# Altium footprint library Modulo-1B-TY.PcbLib: 23 footprints (part 2 of 2)
Each footprint in its own frame and in the unit in brackets; x right, y up, seen from the top. Pads: shape width x height; smd on the part's side, far side on the other; paste and mask are expansions set on the pad; w line width, h text height; cw(c..) or ccw(c..) is an arc to the next point about the centre after c.
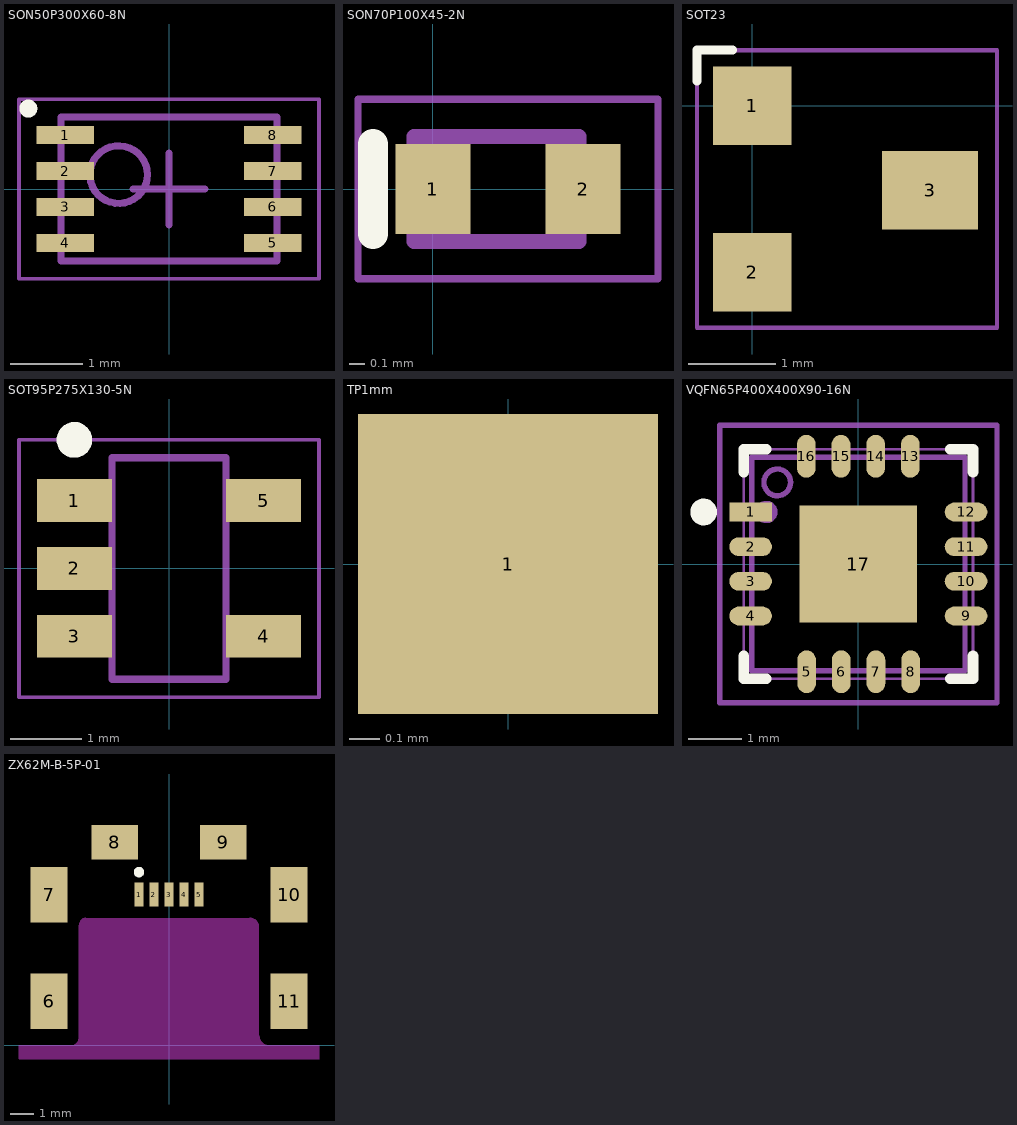
[diagram p1: the footprints below, top view; thin cyan lines are the x and y axes]

## SON50P300X60-8N [mm] "SON, 8-Leads, Body 2.00x3.00mm, Pitch 0.50mm, IPC Medium Density"
height 0.6
pads (8):
  rect 0.8x0.25 smd: 1(-1.44,0.75) 2(-1.44,0.25) 3(-1.44,-0.25) 4(-1.44,-0.75) 5(1.44,-0.75) 6(1.44,-0.25) 7(1.44,0.25) 8(1.44,0.75)
Top Overlay:
  circle w0.15: c-1.956,1.118 r0.05
Mechanical 13:
  circle w0.1: c-0.7,0.2 r0.4
  lines w0.1: -1.5,-1 1.5,-1 1.5,1 -1.5,1 -1.5,-1
Mechanical 15:
  lines w0.05: -2.085,-1.25 2.085,-1.25 2.085,1.25 -2.085,1.25 -2.085,-1.25
  lines w0.1: -0.5,0 0.5,0 ; 0,-0.5 0,0.5
Mechanical 29:
  text ".Designator" at -0.686,-0.889 h1.25
3D body "SON50P300X60-8N.step": height 0.6, standoff 0, extent -1.501,-1 1.501,1

## SON70P100X45-2N [mm] "SON, 2-Leads, Body 0.60x1.00mm, Pitch 0.70mm, IPC Medium Density"
height 0.45
pads (2):
  rect 0.5x0.6 smd: 1(0,0) 2(1,0)
Top Overlay:
  lines w0.2: -0.4,-0.3 -0.4,0.3
Mechanical 13:
  lines w0.1: -0.125,-0.35 -0.125,0.35 0.975,0.35 0.975,-0.35 -0.125,-0.35
Mechanical 15:
  lines w0.05: -0.5,-0.6 -0.5,0.6 1.5,0.6 1.5,-0.6 -0.5,-0.6
Mechanical 29:
  text ".Designator" at -0.203,-0.229 h0.7
3D body "SON70P100X45-2N.step": height 0.45, standoff 0, extent -0.05,-0.35 1.05,0.35

## SOT23 [mm] "SOT32"
height 1.2
pads (3):
  rect 0.9x0.9 smd: 1(0,0) 2(0,-1.905)
  rect 1.1x0.9 smd: 3(2.032,-0.965)
Top Overlay:
  lines w0.102: -0.632,0.28 -0.632,0.635 -0.226,0.635
Mechanical 29:
  lines w0.05: -0.632,-2.54 -0.632,0.635 2.797,0.635 2.797,-2.54 -0.632,-2.54
  text ".Designator" at -0.076,-1.448 h1.5
3D body "SW3dPS-3-lead sot23-3.STEP": height 1.03, standoff 0.01, extent -0.088,-2.413 2.388,0.507

## SOT95P275X130-5N [mm] "SOT23, 5-Leads, Body 2.90x2.75mm, Pitch 0.95mm, IPC Medium Density"
height 1.3
pads (5):
  rect 1.05x0.6 smd: 1(-1.325,0.95) 2(-1.325,0) 3(-1.325,-0.95) 4(1.325,-0.95) 5(1.325,0.95)
Top Overlay:
  circle w0.25: c-1.325,1.8 r0.125
Mechanical 13:
  lines w0.1: -0.8,-1.55 -0.8,1.55 0.8,1.55 0.8,-1.55 -0.8,-1.55
Mechanical 15:
  lines w0.05: -2.1,-1.8 -2.1,1.8 2.1,1.8 2.1,-1.8 -2.1,-1.8
Mechanical 29:
  text ".Designator" at 0.66,-1.422 h2
3D body "SOT95P275X130-5N.step": height 1.3, standoff 0, extent -1.5,-1.55 1.5,1.55

## TP1mm [mm] "1mm test point"
pads (1):
  rect 1x1 smd paste-1: 1(0,0)
Mechanical 29:
  text ".Designator" at -1.143,-0.203 h0.7

## VQFN65P400X400X90-16N [mm] "VQFN, 16-Leads, Body 4.0x4.0mm (max), Pitch 0.65mm, IPC Medium Density"
height 0.9
pads (17):
  rect 0.8x0.35 smd: 1(-2.02,0.975)
  oval 0.8x0.35 smd: 2(-2.02,0.325) 3(-2.02,-0.325) 4(-2.02,-0.975) 9(2.02,-0.975) 10(2.02,-0.325) 11(2.02,0.325) 12(2.02,0.975)
  oval 0.35x0.8 smd: 5(-0.97,-2.02) 6(-0.32,-2.02) 7(0.33,-2.02) 8(0.98,-2.02) 13(0.975,2.02) 14(0.325,2.02) 15(-0.325,2.02) 16(-0.975,2.02)
  rect 2.2x2.2 smd: 17(0,0)
Top Overlay:
  circle w0.25: c-2.9,0.975 r0.125
  lines w0.2: -2.15,-1.725 -2.15,-2.15 -1.725,-2.15 ; -2.15,1.725 -2.15,2.15 -1.725,2.15 ; 1.725,-2.15 2.15,-2.15 2.15,-1.725 ; 1.725,2.15 2.15,2.15 2.15,1.725
Mechanical 13:
  circle w0.1: c-1.52,1.53 r0.25
  lines w0.1: -2,-2 2,-2 2,2 -2,2 -2,-2
Mechanical 15:
  lines w0.1: -0.5,0 0.5,0 ; 0,-0.5 0,0.5 ; -2.6,-2.6 2.6,-2.6 2.6,2.6 -2.6,2.6 -2.6,-2.6
Mechanical 29:
  circle w0.254: c-1.725,0.975 r0.083
  lines w0.05: -2.15,-2.15 -2.15,2.15 2.15,2.15 2.15,-2.15 -2.15,-2.15
  text ".Designator" at -1.642,-0.325 h2
3D body: height 0.9, standoff 0.02, extent -2,-2 2,2

## ZX62M-B-5P-01 [mm]
pads (11):
  rect 0.4x1.05 smd: 1(-1.3,6.525) 2(-0.65,6.525) 3(0,6.525) 4(0.65,6.525) 5(1.3,6.525)
  rect 1.6x2.4 smd: 6(-5.2,1.9) 7(-5.2,6.525) 10(5.2,6.525) 11(5.2,1.9)
  rect 2x1.5 smd: 8(-2.35,8.8) 9(2.35,8.8)
Top Overlay:
  circle w0.254: c-1.3,7.5 r0.1
Keep-Out Layer:
  board cut-out: -6.5,-0.6 -6.5,0 -4.2,0 -4.141,0.006 -4.033,0.051 -3.951,0.133 -3.906,0.241 -3.9,0.3 -3.9,5.2 -3.9,5.26 -3.854,5.37 -3.77,5.454 -3.66,5.5 -3.6,5.5 3.5,5.5 3.58,5.5 3.727,5.439 3.839,5.327 3.9,5.18 3.9,5.1 3.9,0.4 3.908,0.322 3.967,0.178 4.078,0.067 4.222,0.008 4.3,0 6.5,0 6.5,-0.6
Keep-Out Layer:
  lines w0.05: -6.5,-0.6 6.5,-0.6 6.5,0 4.3,0 cw(c4.3,0.4) 3.9,0.4 3.9,5.1 ccw(c3.5,5.1) 3.5,5.5 0,5.5 -3.6,5.5 ccw(c-3.6,5.2) -3.9,5.2 -3.9,0.3 cw(c-4.2,0.3) -4.2,0 -6.5,0 -6.5,-0.6
Mechanical 29:
  text ".Designator" at -2.3,3 h2
3D body "ZX62M-B-5P.stp": height 1.55, standoff -1.53, extent -5.75,-0.47 5.75,8.825